# Altium integrated library TPS51116PWP.IntLib: 1 symbol
Pins are listed as number, name and electrical type; pins without a type are passive.

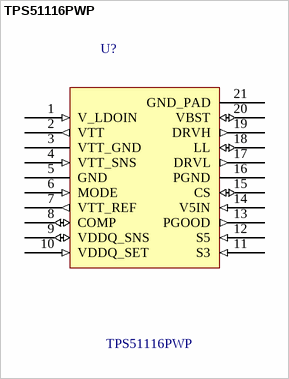
[diagram p0: symbol TPS51116PWP]

## TPS51116PWP
designator U?
DC to DC Controller Single Output Synchronous Buck 3 Volt to 28 Volt Input 20-Pin HTSSOP EP; Manufacturer: Texas Instruments; Designer: Faheem; Company: PhasePhotonics; Data Sheet: http://www.produktinfo.conrad.com/datenblaetter/1000000-1099999/001014812-da-01-en-IC_SYNC_BUCK_C_TPS51116PWPR_TSSOP_20_TID.pdf; SnapEDA_Link: https://www.snapeda.com/parts/TPS51116PWP/Texas%20Instruments/view-part/?ref=snap; Package: HTSSOP-20 Texas Instruments; Part Number: TPS51116PWP; Digi-Key_Purchase_URL: https://www.digikey.co.uk/product-detail/en/texas-instruments/TPS51116PWP/296-17243-ND/675984?utm_source=snapeda&utm_medium=aggregator&utm_campaign=symbol; Digi-Key_Part_Number: 296-17243-ND
footprint SOP65P640X120-21N
pins: 1 V_LDOIN (in) "Power supply for the VTT LDO.", 2 VTT (out) "Power output for the VTT LDO.", 3 VTT_GND (power) "Power ground output for the VTT LDO.", 4 VTT_SNS (in) "Voltage sense input for the VTT LDO. Connect to plus terminal of the VTT LDO output capacitor.", 5 GND (power) "Signal ground. Connect to minus terminal of the VTT LDO output capacitor.", 6 MODE (in) "Discharge mode setting pin. See VDDQ and VTT Discharge Control section.", 7 VTT_REF (out) "VTTREF buffered reference output.", 8 COMP (io) "Output of the transconductance amplifier for phase compensation. Connect to V5IN to disable gm amplifier and use D-CAP™ mode.", 9 VDDQ_SNS (io) "VDDQ reference input for VTT and VTTREF. Power supply for the VTTREF. Discharge current sinking terminal for VDDQ Non-tracking discharge. Output voltage feedback input for  VDDQ output if VDDQSET pin is connected to V5IN or GND.", 10 VDDQ_SET (in) "VDDQ output voltage setting pin. See VDDQ Output Voltage Selection section.", 11 S3 (in) "S3 signal input.", 12 S5 (in) "S5 signal input.", 13 PGOOD (out) "Powergood signal open drain output, In HIGH state when VDDQ output voltage is within the target range.", 14 V5IN (in) "5-V power supply input for internal circuits (PWP) and MOSFET gate drivers (PWP, RGE).", 15 CS (io) "Current sense comparator input (-) for resistor current sense scheme. Or overcurrent trip voltage setting input for RDS(on) current sense scheme if connected to V5IN (PWP), V5FILT  (RGE) through the voltage setting resistor.", 16 PGND (power) "Ground for rectifying (bottom) MOSFET gate driver (PWP, RGE). Also current sense comparator input(+) and ground for powergood circuit (PWP).", 17 DRVL (out) "Rectifying (bottom) MOSFET gate drive output.", 18 LL (io) "Switching (top) MOSFET gate driver return. Current sense comparator input (-) for RDS(on) current sense.", 19 DRVH (out) "Switching (top) MOSFET gate drive output.", 20 VBST (io) "Switching (top) MOSFET driver bootstrap voltage input.", 21 GND_PAD (power) "Ground for thermal pad."